# EAGLE library part HIP4081A (library IC & Transistor)
80V/2.5A Peak, High Frequency Full Bridge FET Driver.
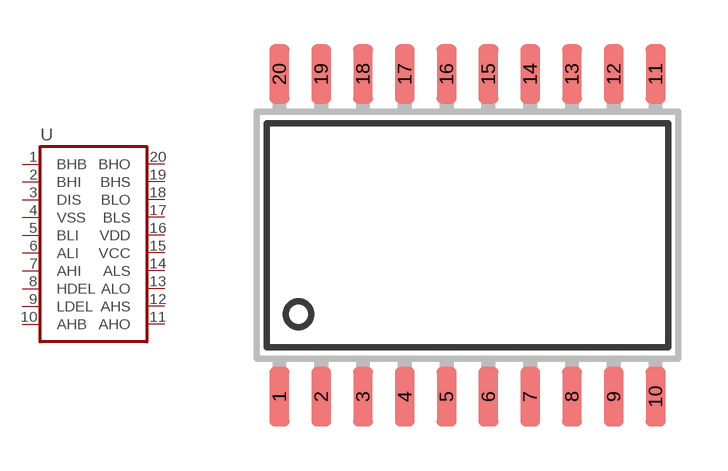
[diagram p7: symbol with the pads of SOIC-20W; footprint SOIC-20W]

Designator prefix U

## HIP4081A_(SOIC-20W) (CYTRON-PC: S-IC-HIP4081AIB-SO20; DESC: S H Bridge HIP4081AIB SO20; MF: INTERSIL; MPN: HIP4081AIBZT)  [SOIC-20W]
1  BHB
2  BHI
3  DIS
4  VSS
5  BLI
6  ALI
7  AHI
8  HDEL
9  LDEL
10  AHB
11  AHO
12  AHS
13  ALO
14  ALS
15  VCC
16  VDD
17  BLS
18  BLO
19  BHS
20  BHO

## Footprint SOIC-20W (pad centres in mm)
Small Outline Integrated Circuit (SOIC) Wide (EIAJ) SOIC Package Size: 12.8 x 7.50mm Lead Pitch: 1.27mm
smd 0.6 x 1.8: 1 -5.715,-4.9; 2 -4.445,-4.9; 3 -3.175,-4.9; 4 -1.905,-4.9; 5 -0.635,-4.9; 6 0.635,-4.9; 7 1.905,-4.9; 8 3.175,-4.9; 9 4.445,-4.9; 10 5.715,-4.9; 11 5.715,4.9; 12 4.445,4.9; 13 3.175,4.9; 14 1.905,4.9; 15 0.635,4.9; 16 -0.635,4.9; 17 -1.905,4.9; 18 -3.175,4.9; 19 -4.445,4.9; 20 -5.715,4.9